# EAGLE library part SN74AVC4T245PWR (library C3-Ti)
4-BIT DUAL-SUPPLY BUS TRANSCEIVER
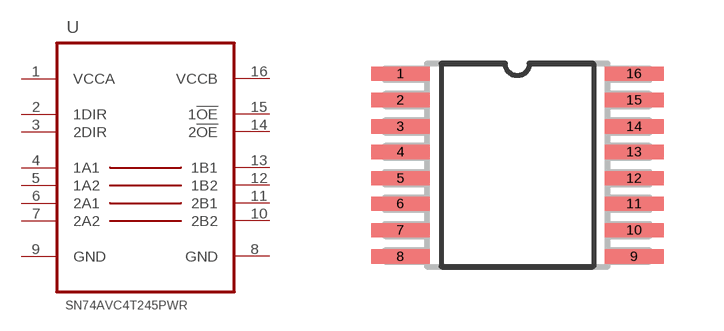
[diagram p10: symbol with the pads of SOP65P640X120-16N; footprint SOP65P640X120-16N]

Designator prefix U

## SN74AVC4T245PWR (MPN: SN74AVC4T245PWR; OC_FARNELL: -; OC_NEWARK: 33K5891; PACKAGE: TSSOP-16; SUPPLIER: Texas Instruments)  [SOP65P640X120-16N]
1  VCCA  pwr
2  1DIR  in
3  2DIR  in
4  1A1
5  1A2
6  2A1
7  2A2
8  GND  pwr
9  GND  pwr
10  2B2
11  2B1
12  1B2
13  1B1
14  2!OE  in
15  1!OE  in
16  VCCB  pwr

## Footprint SOP65P640X120-16N (pad centres in mm)
smd 1.473 x 0.356: 1 -2.921,2.286; 2 -2.921,1.626; 3 -2.921,0.965; 4 -2.921,0.33; 5 -2.921,-0.33; 6 -2.921,-0.965; 7 -2.921,-1.626; 8 -2.921,-2.286; 9 2.921,-2.286; 10 2.921,-1.626; 11 2.921,-0.965; 12 2.921,-0.33; 13 2.921,0.33; 14 2.921,0.965; 15 2.921,1.626; 16 2.921,2.286